# Altium footprint library myPcbLib1.PcbLib: 99 footprints (part 4 of 7)
Each footprint in its own frame and in the unit in brackets; x right, y up, seen from the top. Pads: shape width x height; smd on the part's side, far side on the other; paste and mask are expansions set on the pad; w line width, h text height; cw(c..) or ccw(c..) is an arc to the next point about the centre after c.
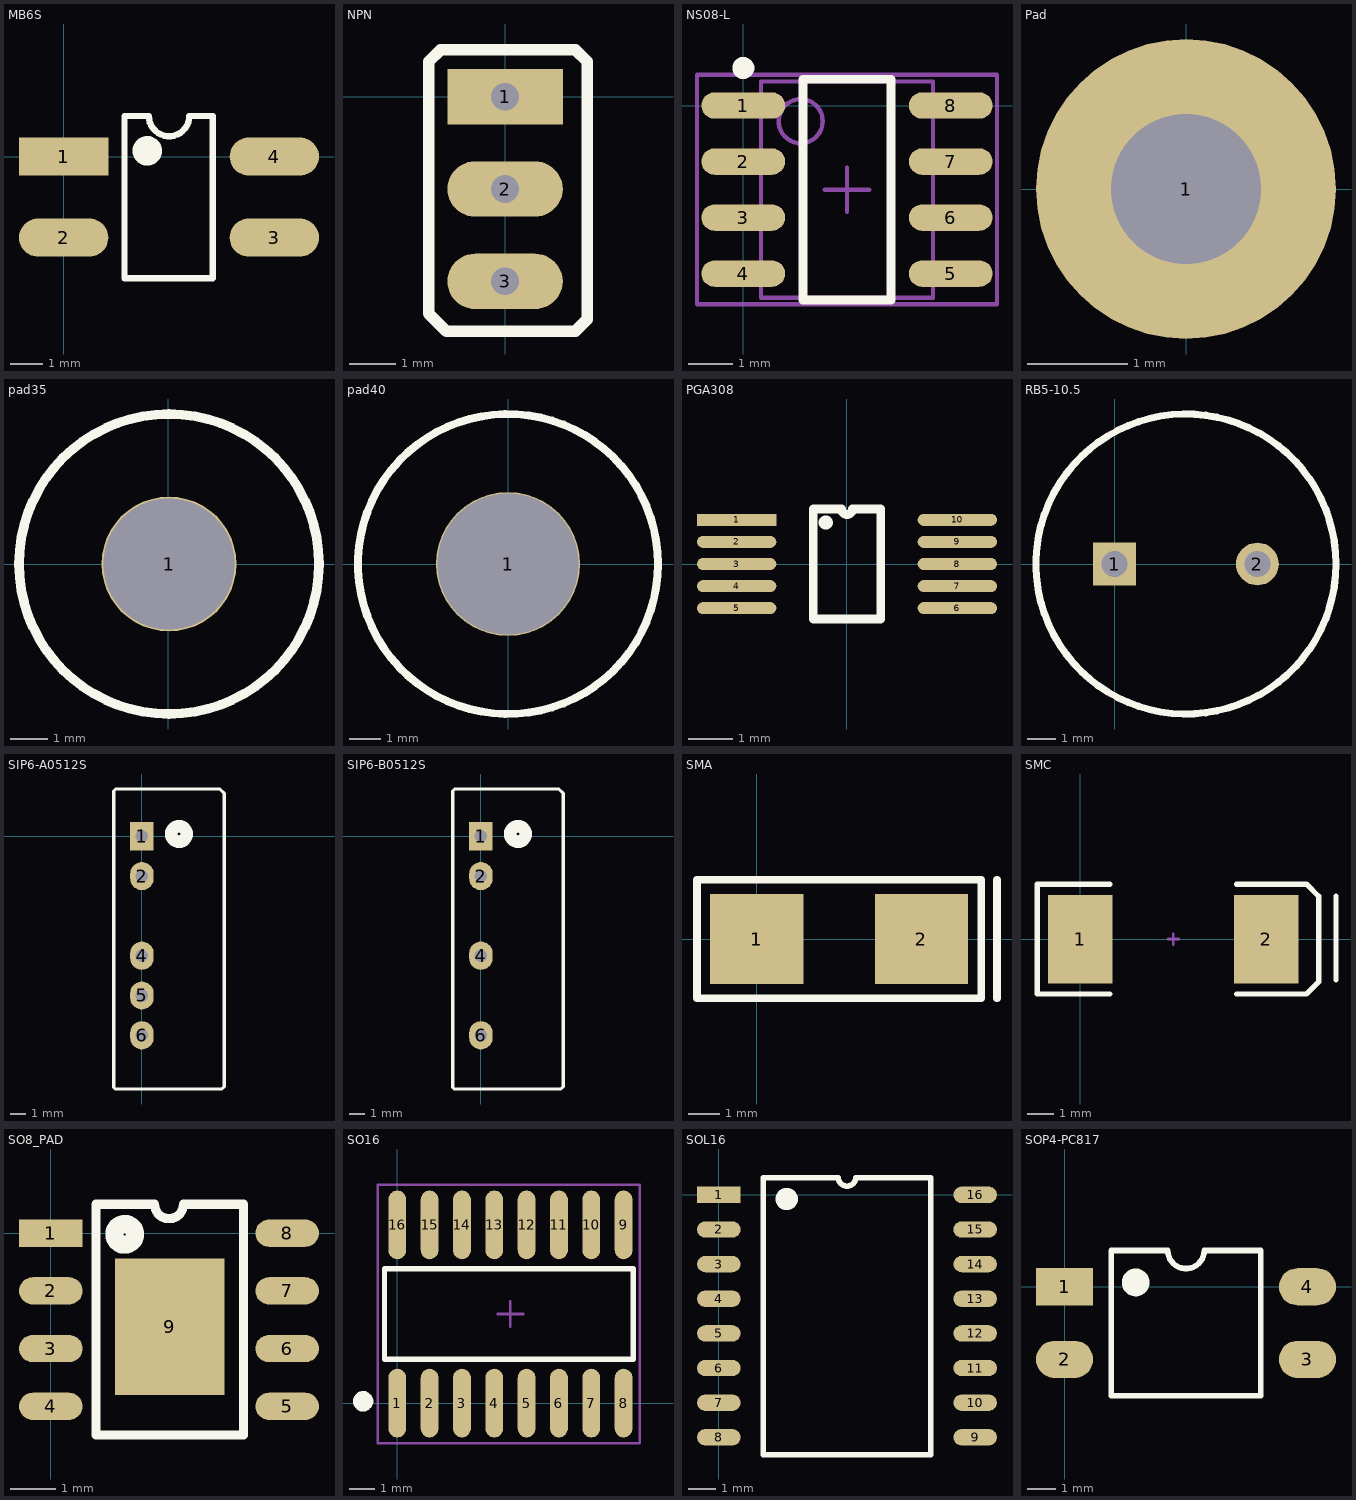
[diagram p3: the footprints below, top view; thin cyan lines are the x and y axes]

## MB6S [mm]
pads (4):
  rect 2.8x1.2 smd: 1(0,0)
  oval 2.8x1.2 smd: 2(0,-2.54) 3(6.6,-2.54) 4(6.6,0)
Top Overlay:
  circle w0.6: c2.616,0.178 r0.163
  lines w0.2: 2.665,1.27 1.905,1.27 1.905,-3.81 4.674,-3.81 4.674,1.27 3.935,1.27 ; 2.667,1.27 ccw(c3.302,1.27) 3.937,1.27

## NPN [mm]
pads (3):
  rect 2.5x1.2 hole 0.6: 1(0,0)
  oval 2.5x1.2 hole 0.6: 2(0,-2) 3(0,-4)
Top Overlay:
  lines w0.254: -1.651,-4.699 -1.27,-5.08 1.27,-5.08 1.524,-5.08 1.778,-4.826 1.778,-4.572 1.778,0.762 1.524,1.016 -1.397,1.016 -1.651,0.762 -1.651,-4.699

## NS08-L [mm] "SOIC, 8-Leads, Body 4.9x3.9mm, Pitch 1.27mm, IPC High Density"
pads (8):
  oval 1.9x0.6 smd: 1(0,0) 2(0,-1.27) 3(0,-2.54) 4(0,-3.81) 5(4.7,-3.81) 6(4.7,-2.54) 7(4.7,-1.27) 8(4.7,0)
Top Overlay:
  circle w0.25: c0,0.85 r0.125
  lines w0.2: 1.35,-4.405 3.35,-4.405 3.35,0.595 1.35,0.595 1.35,-4.405
Mechanical 13:
  circle w0.1: c1.3,-0.355 r0.5
  lines w0.1: 0.4,-4.355 4.3,-4.355 4.3,0.545 0.4,0.545 0.4,-4.355
Mechanical 15:
  lines w0.1: 1.85,-1.905 2.85,-1.905 ; 2.35,-2.405 2.35,-1.405 ; -1.05,-4.505 5.75,-4.505 5.75,0.695 -1.05,0.695 -1.05,-4.505
3D body: height 1.75, standoff 0, extent 0.4,-4.355 4.3,0.545

## Pad [mm]
pads (1):
  round 3 hole 1.5: 1(0,0)

## pad35 [mm]
pads (1):
  round 3.6 hole 3.5: 1(0.025,0)
Top Overlay:
  circle w0.254: c0.025,0 r4

## pad40 [mm]
pads (1):
  round 4.6 hole 4.5: 1(0,0)
Top Overlay:
  circle w0.254: c0,0 r4.8

## PGA308 [mm]
pads (10):
  rect 1.8x0.27 smd: 1(-2.5,1)
  oval 1.8x0.27 smd: 2(-2.5,0.5) 3(-2.5,0) 4(-2.5,-0.5) 5(-2.5,-1) 6(2.5,-1) 7(2.5,-0.5) 8(2.5,0) 9(2.5,0.5) 10(2.5,1)
Top Overlay:
  circle w0.25: c-0.483,0.94 r0.036
  lines w0.2: -0.765,-1.25 0.765,-1.25 0.765,1.25 0.125,1.25 cw(c0,1.25) -0.125,1.25 -0.765,1.25 -0.765,-1.25

## RB5-10.5 [mm] "Motor, General Kind; 2 Leads"
pads (2):
  rect 1.5x1.5 hole 0.9: 1(0,0)
  round 1.5 hole 0.9: 2(5,0)
Top Overlay:
  circle w0.25: c2.5,0 r5.25
Mechanical 1:
  circle w0.02: c2.5,0 r5.25

## SIP6-A0512S [mm]
pads (5):
  rect 1.5x1.8 hole 0.8: 1(0,0)
  oval 1.5x1.8 hole 0.8: 2(0,-2.54) 4(0,-7.62) 5(0,-10.16) 6(0,-12.7)
Top Overlay:
  circle w0.8: c2.362,0.152 r0.493
  lines w0.203: -1.803,-16.027 -1.702,-16.129 5.105,-16.129 5.258,-15.977 5.258,2.743 4.978,3.023 -1.676,3.023 -1.803,2.896 -1.803,-16.027

## SIP6-B0512S [mm]
pads (4):
  rect 1.5x1.8 hole 0.8: 1(0,0)
  oval 1.5x1.8 hole 0.8: 2(0,-2.54) 4(0,-7.62) 6(0,-12.7)
Top Overlay:
  circle w0.8: c2.362,0.152 r0.493
  lines w0.203: -1.803,-16.027 -1.702,-16.129 5.105,-16.129 5.258,-15.977 5.258,2.743 4.978,3.023 -1.676,3.023 -1.803,2.896 -1.803,-16.027

## SMA [mm]
pads (2):
  rect 3x2.9 smd: 1(0,0) 2(5.3,0)
Top Overlay:
  lines w0.254: 7.73,-1.905 7.73,1.905 ; -1.922,-1.905 7.222,-1.905 7.222,1.905 -1.922,1.905 -1.922,-1.905

## SMC [mm] "DO-214-AB/SMC; 2 C-Bend Leads; Body 7.9 x 5.9 mm, inc. leads (LxW)"
pads (2):
  rect 2.4x3.3 smd: 1(0,0) 2(6.95,0)
Top Overlay:
  lines w0.2: 1.1,-2.05 -1.6,-2.05 -1.6,2.05 1.1,2.05 ; 5.85,-2.05 8.45,-2.05 8.9,-1.6 8.9,1.6 8.45,2.055 ; 5.85,2.05 8.45,2.05 ; 9.55,-1.524 9.55,1.6
Mechanical 1:
  lines w0.1: 3.275,0 3.675,0 ; 3.475,-0.2 3.475,0.2

## SO8_PAD [mm]
pads (9):
  rect 1.4x0.6 smd: 1(0,0)
  oval 1.4x0.6 smd: 2(0,-1.27) 3(0,-2.54) 4(0,-3.81) 5(5.2,-3.81) 6(5.2,-2.54) 7(5.2,-1.27) 8(5.2,0)
  rect 2.4x3 smd: 9(2.616,-2.057)
Top Overlay:
  circle w0.4: c1.626,-0.025 r0.227
  lines w0.2: 0.991,-4.445 4.242,-4.445 4.242,0.635 2.917,0.635 cw(c2.6,0.635) 2.282,0.635 0.991,0.635 0.991,-4.445

## SO16 [mm]
pads (16):
  oval 0.7x2.7 smd: 1(0,0) 2(1.27,0) 3(2.54,0) 4(3.81,0) 5(5.08,0) 6(6.35,0) 7(7.62,0) 8(8.89,0) 9(8.89,7) 10(7.62,7) 11(6.35,7) 12(5.08,7) 13(3.81,7) 14(2.54,7) 15(1.27,7) 16(0,7)
Top Overlay:
  circle w0.4: c-1.343,0.071 r0.2
  lines w0.2: -0.506,1.722 9.269,1.722 9.269,5.278 -0.506,5.278 -0.506,1.722
Mechanical 15:
  lines w0.1: 3.945,3.5 4.945,3.5 ; 4.445,3 4.445,4 ; -0.762,-1.58 9.525,-1.58 9.525,8.58 -0.762,8.58 -0.762,-1.58

## SOL16 [mm]
pads (16):
  rect 1.6x0.6 smd: 1(0,0)
  oval 1.6x0.6 smd: 2(0,-1.27) 3(0,-2.54) 4(0,-3.81) 5(0,-5.08) 6(0,-6.35) 7(0,-7.62) 8(0,-8.89) 9(9.4,-8.89) 10(9.4,-7.62) 11(9.4,-6.35) 12(9.4,-5.08) 13(9.4,-3.81) 14(9.4,-2.54) 15(9.4,-1.27) 16(9.4,0)
Top Overlay:
  circle w0.6: c2.489,-0.152 r0.108
  lines w0.2: 1.635,-9.525 1.635,0.635 4.382,0.635 ccw(c4.7,0.635) 5.017,0.635 7.765,0.635 7.765,-9.525 1.635,-9.525

## SOP4-PC817 [mm]
pads (4):
  rect 2x1.3 smd: 1(0,0)
  oval 2x1.3 smd: 2(0,-2.54) 3(8.5,-2.54) 4(8.5,0)
Top Overlay:
  circle w0.6: c2.489,0.152 r0.185
  lines w0.2: 1.635,-3.81 1.635,1.27 3.615,1.27 ccw(c4.25,1.27) 4.885,1.27 6.865,1.27 6.865,-3.81 1.635,-3.81